# EAGLE library part FDMD8530 (library TRANSISTORs)
Mosfet Array 2 N-Channel (Dual) 30V 35A 2.2W Surface Mount Power56
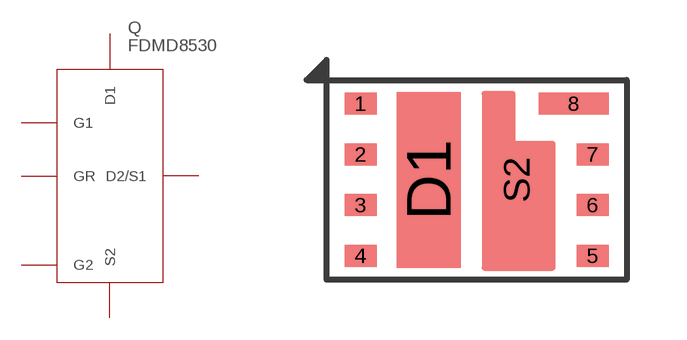
[diagram p2: symbol with the pads of PQFN08; footprint PQFN08]

Designator prefix Q

## FDMD8530 (DIGIKEY: FDMD8530CT-ND; HEIGHT: 0.9; PRICE_PER: 1.48; VALUE: FDMD8530)  [PQFN08]
1  G1
2  GR
3  D1
4  D1
5  D2/S1
6  D2/S1
7  D2/S1
8  G2
D1  D1
S2  S2

## Footprint PQFN08 (pad centres in mm)
smd 0.8 x 0.55: 1 -2.9,1.905; 2 -2.9,0.635; 3 -2.9,-0.635; 4 -2.9,-1.905; 5 2.9,-1.905; 6 2.9,-0.635; 7 2.9,0.635
smd 1.75 x 0.55: 8 2.425,1.905
smd 1.6 x 4.4: D1 -1.2,0
smd 1 x 1: S2 1,0